# Altium footprint library B2P-VH-FB-B.PcbLib: 1 footprints
Each footprint in its own frame and in the unit in brackets; x right, y up, seen from the top. Pads: shape width x height; smd on the part's side, far side on the other; paste and mask are expansions set on the pad; w line width, h text height; cw(c..) or ccw(c..) is an arc to the next point about the centre after c.
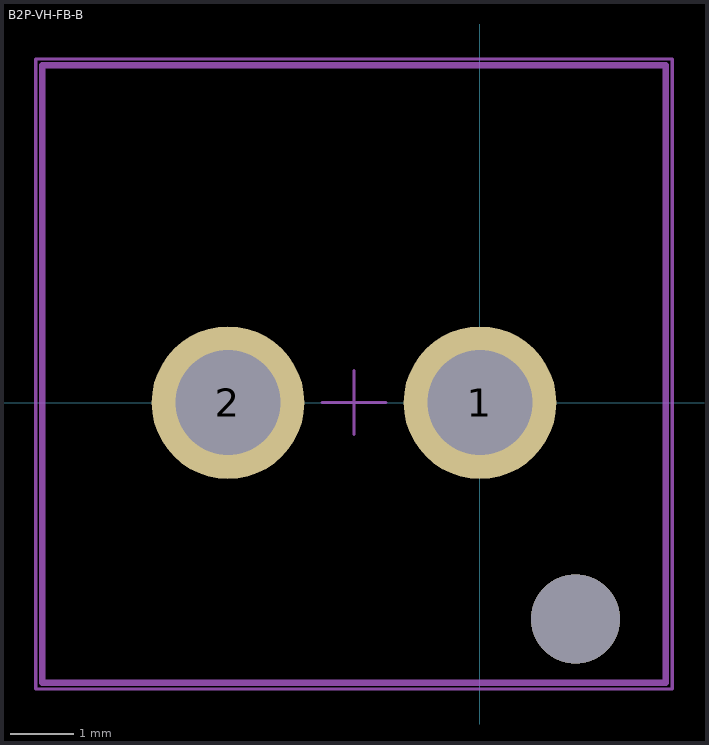
[diagram p0: the footprint, top view; thin cyan lines are the x and y axes]

## B2P-VH-FB-B [mm]
pads (2):
  round 2.4 hole 1.65 unplated: 1(0,0) 2(-3.96,0)
via 1.5,-3.4 diameter 1.4 hole 1.4
Mechanical 13:
  lines w0.1: -6.88,-4.4 2.92,-4.4 2.92,5.3 -6.88,5.3 -6.88,-4.4
Mechanical 15:
  lines w0.05: -2.48,0 -1.48,0 ; -1.98,-0.5 -1.98,0.5 ; -6.98,-4.5 -6.98,5.4 3.02,5.4 3.02,-4.5 -6.98,-4.5
3D body "B2P-VH-FB-B.STEP": height 11, standoff -3.7, extent -6.88,-4.4 2.92,5.3